# Altium schematic symbol library IRLR7843.SchLib: 1 symbol
Pins are listed as number, name and electrical type; pins without a type are passive.

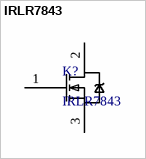
[diagram p0: symbol IRLR7843]

## IRLR7843
designator K?
N channel Mosfet
footprint DPAK228P991X238-3M (D-PAK, 3-Pads, Body 6.21x6.73mm (max), IPC Low Density)
pins: 1 G, 2 D, 3 S